# EAGLE library part PCM3006 (library mytexas)
16-Bit, Single-Ended Analog Input/Output Stereo Audio Codec Source: http://focus.ti.com/lit/ds/symlink/pcm3006.pdf
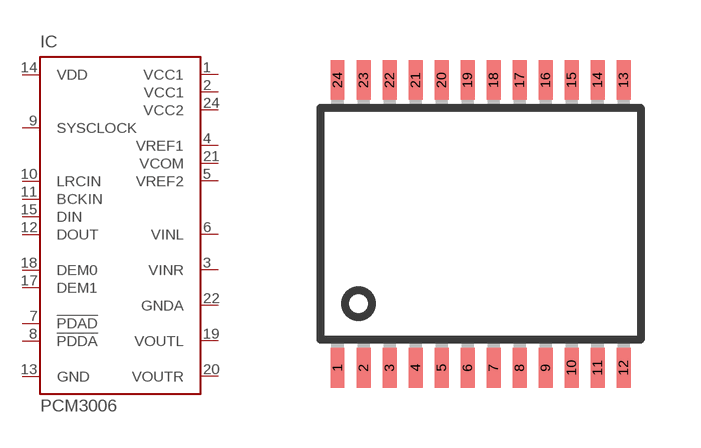
[diagram p30: symbol with the pads of R-PSOP-G24; footprint R-PSOP-G24]

Designator prefix IC

## PCM3006  [R-PSOP-G24]
1  VCC1  pwr
2  VCC1  pwr
3  VINR  in
4  VREF1  pas
5  VREF2  pas
6  VINL  in
7  !PDAD  in
8  !PDDA  in
9  SYSCLOCK  in
10  LRCIN  in
11  BCKIN  in
12  DOUT  in
13  GND  pwr
14  VDD  pwr
15  DIN  in
17  DEM1  in
18  DEM0  in
19  VOUTL  out
20  VOUTR  out
21  VCOM  pwr
22  GNDA  pwr
24  VCC2  pwr

## Footprint R-PSOP-G24 (pad centres in mm)
DCV (R-PSOP-G24) PLASTIC SMALL-OUTLINE Source: http://focus.ti.com/lit/ds/symlink/pcm3006.pdf
smd 0.35 x 1: 1 -3.575,-3.6; 2 -2.925,-3.6; 3 -2.275,-3.6; 4 -1.625,-3.6; 5 -0.975,-3.6; 6 -0.325,-3.6; 7 0.325,-3.6; 8 0.975,-3.6; 9 1.625,-3.6; 10 2.275,-3.6; 11 2.925,-3.6; 12 3.575,-3.6; 13 3.575,3.6; 14 2.925,3.6; 15 2.275,3.6; 16 1.625,3.6; 17 0.975,3.6; 18 0.325,3.6; 19 -0.325,3.6; 20 -0.975,3.6; 21 -1.625,3.6; 22 -2.275,3.6; 23 -2.925,3.6; 24 -3.575,3.6